# Altium integrated library Chaos_Speaker_PCB.IntLib: 5 symbols
Pins are listed as number, name and electrical type; pins without a type are passive.

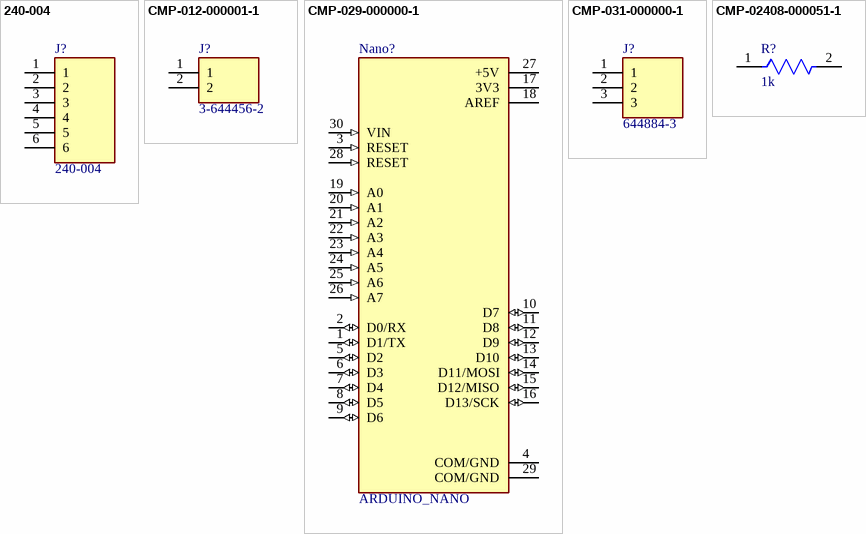
[diagram p0: symbols 240-004 to CMP-02408-000051-1]

## 240-004
designator J?
Connector; Manufacturer_Name: Digilent; Datasheet Link: https://digilent.com/reference/_media/reference/test-and-measurement/6-pin-header-gender-changer/163-068-2.pdf; Height: 9.09mm; Manufacturer_Part_Number: 240-004; Arrow Part Number: 240-004; Arrow Price/Stock: https://www.arrow.com/en/products/240-004/digilent?region=nac
footprint HDRV6W64P0X254_1X6_1524X254X909P
pins: 1, 2, 3, 4, 5, 6

## CMP-012-000001-1
designator J?, comment 3-644456-2
Connector Unshrouded Header HDR 2 Position 2.54mm Solder Straight Thru-Hole; Centerline_Pitch: 2.54 mm[.1 in]; MF: TE Connectivity; Number_of_Positions: 2; TE_purchase_URL: https://www.te.com/usa-en/product-3-644456-2.html?te_bu=Cor&te_type=disp&te_campaign=seda_glo_cor-seda-global-disp-prtnr-fy19-seda-model-bom-cta_sma-317_1&elqCampaignId=32493; SnapEDA_Link: https://www.snapeda.com/parts/3-644456-2/TE%20Connectivity%20AMP%20Connectors/view-part/520887/?ref=snap; Digi-Key_Part_Number: A31112-ND; Component Type: Standard; EU_RoHS_Compliance: Compliant; Source: SnapEDAsch.SchLib; Pin Count: 2; Product_Type: Connector; Value: *; MP: 3-644456-2; Package: None; Digi-Key_Purchase_URL: https://www.digikey.com/product-detail/en/te-connectivity-amp-connectors/3-644456-2/A31112-ND/698344?utm_source=snapeda&utm_medium=aggregator&utm_campaign=symbol; Design Item ID: 3-644456-2; Component Type: Connectors
footprint TE_3-644456-2
pins: 1, 2

## CMP-029-000000-1
designator Nano?, comment ARDUINO_NANO
Small, complete, and breadboard-friendly board based on the ATmega328 (Arduino Nano 3.x); Package: Non-Standard Arduino; Component Type: Standard; MF: Arduino; Design Item ID: ARDUINO_NANO; SnapEDA_Link: https://www.snapeda.com/parts/Arduino%20Nano/Arduino/view-part/?ref=snap; Value: *; Price: None; MP: Arduino Nano; Check_prices: https://www.snapeda.com/parts/Arduino%20Nano/Arduino/view-part/?ref=eda; Source: ARDUINO_NANO.SchLib; Pin Count: 30; Availability: Not in stock; Component Type: Processors
footprint SHIELD_ARDUINO_NANO
pins: 1 D1/TX (io), 2 D0/RX (io), 3 RESET (in), 4 COM/GND (power), 5 D2 (io), 6 D3 (io), 7 D4 (io), 8 D5 (io), 9 D6 (io), 10 D7 (io), 11 D8 (io), 12 D9 (io), 13 D10 (io), 14 D11/MOSI (io), 15 D12/MISO (io), 16 D13/SCK (io), 17 3V3 (power), 18 AREF (power), 19 A0 (in), 20 A1 (in), 21 A2 (in), 22 A3 (in), 23 A4 (in), 24 A5 (in), 25 A6 (in), 26 A7 (in), 27 +5V (power), 28 RESET (in), 29 COM/GND (power), 30 VIN (in)

## CMP-031-000000-1
designator J?, comment 644884-3
Design Item ID: 644884-3; Price: None; Package: None; Value: *; Availability: Unavailable; Pin Count: 3; Source: 644884-3.SchLib; Component Type: Standard; MP: 644884-3; Component Type: Connectors
footprint TE_644884-3
pins: 1, 2, 3

## CMP-02408-000051-1
designator R?, comment Resistance: 1k  (hidden comment: MRS25000C1001FCT00)
RES 1K OHM 0.6W 1% AXIAL; Power Rating: 600mW; Lead Diameter: 0.6mm; Voltage Rating (DC): 350V; Temperature Coefficient: 50ppm/°C; Width: 2.5mm; Military Standard: Not; Package Quantity: 5000; Radiation Hardening: No; Case/Package: Axial; Resistance Tolerance: 1%; Resistor Type: Metal Film; Contact Plating: Tin; Length: 6.5mm; Lead Free: Lead Free; RoHS Compliant: Yes; Mount: Through Hole; Number of Pins: 2; Technology: THIN FILM; Voltage Rating: 350V; Min Operating Temperature: -55°C; Weight: 0.00776oz; Diameter: 2.5mm; Construction: Cylindrical; Series: MRS25; Tolerance: 1%; Packaging: Tape and Reel; Max Operating Temperature: 155°C; Max Power Dissipation: 600mW; Number of Terminations: 2; Termination: Axial
footprint FP-MRS25-MFG
pins: 1, 2